# Altium schematic symbol library LWQ38E.SchLib: 1 symbol
Pins are listed as number, name and electrical type; pins without a type are passive.

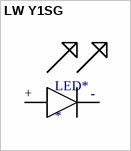
[diagram p0: symbol LW Y1SG]

## LW Y1SG
designator LED*
Perpendicular LED
footprint LW Q38E (Chip Diode, 2-Leads, Body 1.60x0.80mm, IPC Medium Density)
pins: +, -